# EAGLE library part C8051F321 (library X893)
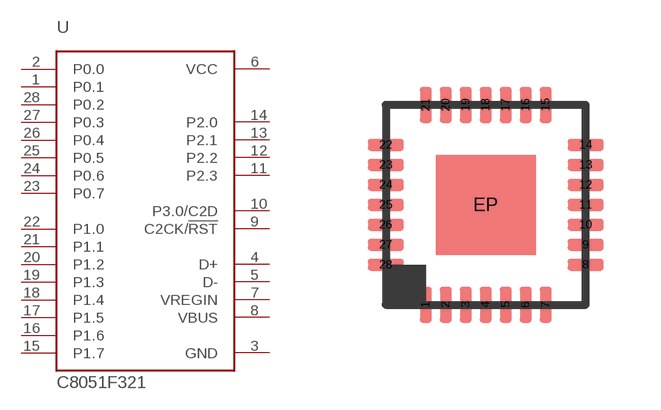
[diagram p82: symbol with the pads of QFN28-5X5; footprint QFN28-5X5]

Designator prefix U

## C8051F321  [QFN28-5X5]
1  P0.1
2  P0.0
3  GND  sup
4  D+
5  D-
6  VCC
7  VREGIN
8  VBUS
9  C2CK/!RST
10  P3.0/C2D
11  P2.3
12  P2.2
13  P2.1
14  P2.0
15  P1.7
16  P1.6
17  P1.5
18  P1.4
19  P1.3
20  P1.2
21  P1.1
22  P1.0
23  P0.7
24  P0.6
25  P0.5
26  P0.4
27  P0.3
28  P0.2

## Footprint QFN28-5X5 (pad centres in mm)
smd 0.3 x 0.9: 1 -1.5,-2.5; 2 -1,-2.5; 3 -0.5,-2.5; 4 0,-2.5; 5 0.5,-2.5; 6 1,-2.5; 7 1.5,-2.5; 15 1.5,2.5; 16 1,2.5; 17 0.5,2.5; 18 0,2.5; 19 -0.5,2.5; 20 -1,2.5; 21 -1.5,2.5
smd 0.9 x 0.3: 8 2.5,-1.5; 9 2.5,-1; 10 2.5,-0.5; 11 2.5,0; 12 2.5,0.5; 13 2.5,1; 14 2.5,1.5; 22 -2.5,1.5; 23 -2.5,1; 24 -2.5,0.5; 25 -2.5,0; 26 -2.5,-0.5; 27 -2.5,-1; 28 -2.5,-1.5
smd 0.5 x 0.5: EP 0,0